# EAGLE library part LM339 (library OP_s)
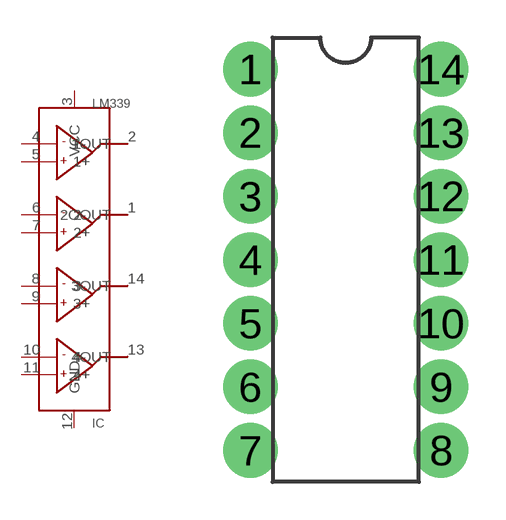
[diagram p1: symbol with the pads of LM339; footprint LM339]

Designator prefix IC

## LM339  [LM339]
1  2OOUT  sup
2  1OUT  sup
3  VCC  sup
4  1-  sup
5  1+  sup
6  2-  sup
7  2+  sup
8  3-  sup
9  3+  sup
10  4-  sup
11  4+  sup
12  GND  sup
13  4OUT  sup
14  3OUT  sup

## Footprint LM339 (pad centres in mm)
drill 1 pad 2.184 round: 1 -3.81,7.62; 2 -3.81,5.08; 3 -3.81,2.54; 4 -3.81,0; 5 -3.81,-2.54; 6 -3.81,-5.08; 7 -3.81,-7.62; 8 3.81,-7.62; 9 3.81,-5.08; 10 3.81,-2.54; 11 3.81,0; 12 3.81,2.54; 13 3.81,5.08; 14 3.81,7.62